# Altium footprint library Buck.PcbLib: 1 footprints
Each footprint in its own frame and in the unit in brackets; x right, y up, seen from the top. Pads: shape width x height; smd on the part's side, far side on the other; paste and mask are expansions set on the pad; w line width, h text height; cw(c..) or ccw(c..) is an arc to the next point about the centre after c.
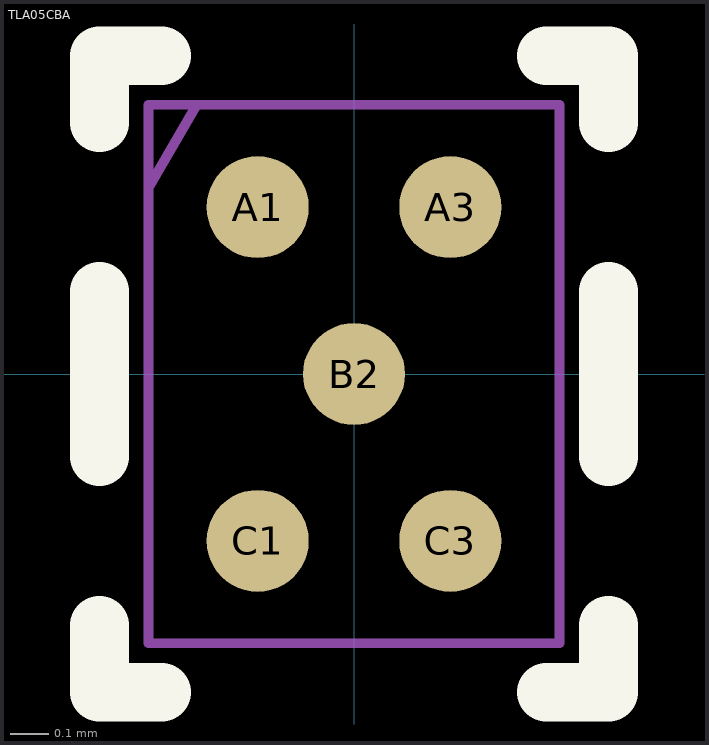
[diagram p0: the footprint, top view; thin cyan lines are the x and y axes]

## TLA05CBA [mm]
pads (5):
  round 0.265 smd paste+0 mask+0: A1(-0.25,0.433) A3(0.25,0.433) B2(0,0) C1(-0.25,-0.433) C3(0.25,-0.433)
Top Overlay:
  lines w0.152: -0.66,-0.652 -0.66,-0.826 -0.5,-0.826 ; -0.66,-0.214 -0.66,0.214 ; -0.66,0.652 -0.66,0.826 -0.5,0.826 ; 0.5,-0.826 0.66,-0.826 0.66,-0.652 ; 0.5,0.826 0.66,0.826 0.66,0.652 ; 0.66,-0.214 0.66,0.214
Mechanical 13:
  lines w0.025: -0.533,0.482 -0.408,0.699 ; -0.533,-0.699 0.533,-0.699 0.533,0.699 -0.533,0.699 -0.533,-0.699
3D body "TLA05CBA.step": height 0.61, standoff 0, extent -0.533,-0.698 0.533,0.698